# Altium footprint library adafruit.PCBLIB: 630 footprints (part 27 of 40)
Each footprint in its own frame and in the unit in brackets; x right, y up, seen from the top. Pads: shape width x height; smd on the part's side, far side on the other; paste and mask are expansions set on the pad; w line width, h text height; cw(c..) or ccw(c..) is an arc to the next point about the centre after c.
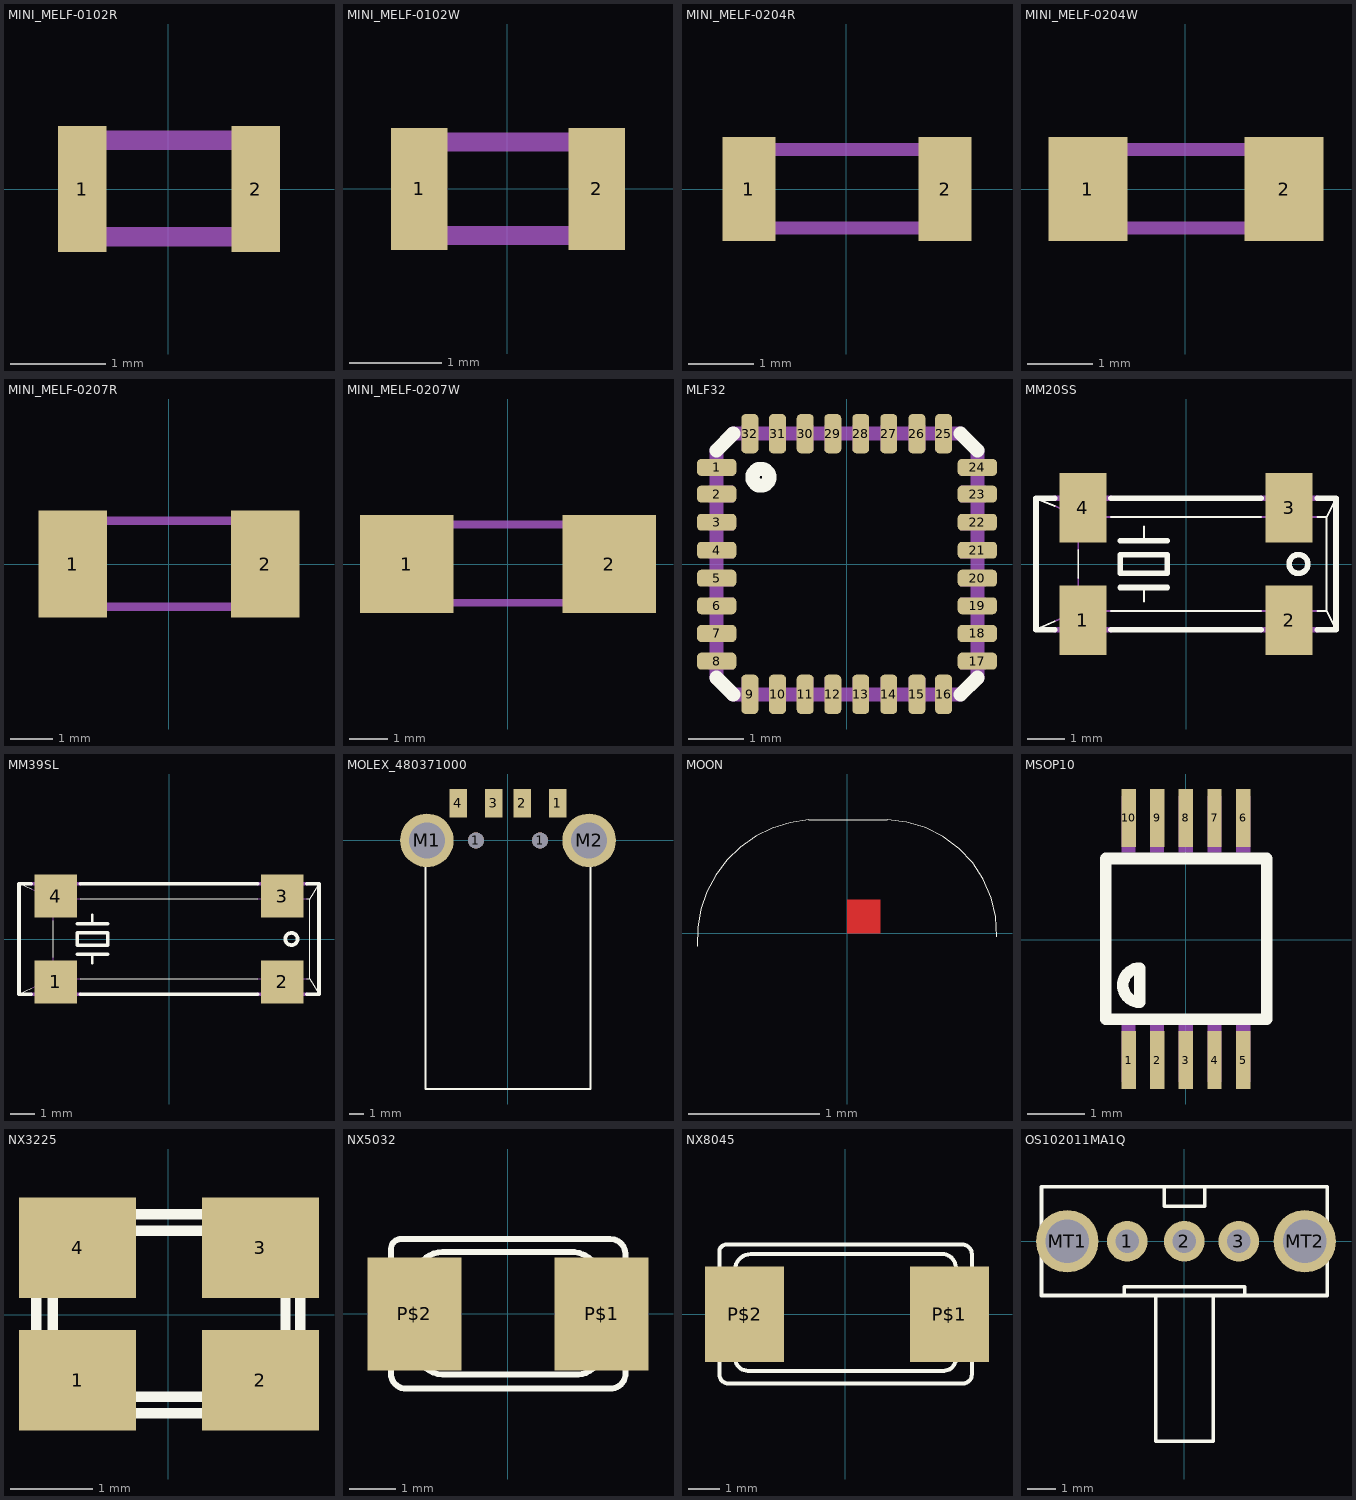
[diagram p26: the footprints below, top view; thin cyan lines are the x and y axes]

## MINI_MELF-0102R [mil]
pads (2):
  rect 20x52 smd: 1(-35.43,0) 2(36,0)
Mechanical 16:
  lines w8: -39.37,-19.68 40,-19.68 40,20 -39.37,20 -39.37,-19.68

## MINI_MELF-0102W [mil]
pads (2):
  rect 24x52 smd: 1(-37.4,0) 2(38,0)
Mechanical 16:
  lines w8: -39.37,-19.68 40,-19.68 40,20 -39.37,20 -39.37,-19.68

## MINI_MELF-0204R [mil]
pads (2):
  rect 32x63 smd: 1(-59.06,0) 2(60,0)
Mechanical 16:
  lines w8: -66.93,-23.62 67,-23.62 67,24 -66.93,24 -66.93,-23.62

## MINI_MELF-0204W [mil]
pads (2):
  rect 48x63 smd: 1(-59.06,0) 2(60,0)
Mechanical 16:
  lines w8: -66.93,-23.62 67,-23.62 67,24 -66.93,24 -66.93,-23.62

## MINI_MELF-0207R [mil]
pads (2):
  rect 63x99 smd: 1(-88.58,0) 2(89,0)
Mechanical 16:
  lines w8: -110.24,-39.37 111,-39.37 111,40 -110.24,40 -110.24,-39.37

## MINI_MELF-0207W [mil]
pads (2):
  rect 95x99 smd: 1(-102.36,0) 2(103,0)
Mechanical 16:
  lines w8: -110.24,-39.37 111,-39.37 111,40 -110.24,40 -110.24,-39.37

## MLF32 [mil]
pads (32):
  rrect50% 28x12 smd: 1(-92.52,69) 2(-92.52,50) 3(-92.52,30) 4(-92.52,10) 5(-92.52,-9.84) 6(-92.52,-29.53) 7(-92.52,-49.21) 8(-92.52,-68.9) 17(93,-68.9) 18(93,-49.21) 19(93,-29.53) 20(93,-9.84) 21(93,10) 22(93,30) 23(93,50) 24(93,69)
  rrect50% 12x28 smd: 9(-68.9,-92.52) 10(-49.21,-92.52) 11(-29.53,-92.52) 12(-9.84,-92.52) 13(10,-92.52) 14(30,-92.52) 15(50,-92.52) 16(69,-92.52) 25(69,93) 26(50,93) 27(30,93) 28(10,93) 29(-9.84,93) 30(-29.53,93) 31(-49.21,93) 32(-68.9,93)
Top Overlay:
  circle w10: c-61.02,62 r6
  lines w10: -92.52,-80.71 -80.71,-92.52 ; -92.52,81 -80.71,93 ; 81,-92.52 93,-80.71 ; 81,93 93,81
Mechanical 16:
  rectangle: -98.43,63 -80.71,75
  rectangle: -98.43,44 -80.71,56
  rectangle: -98.43,24 -80.71,36
  rectangle: -98.43,4 -80.71,16
  rectangle: -98.43,-15.75 -80.71,-3.94
  rectangle: -98.43,-35.43 -80.71,-23.62
  rectangle: -98.43,-55.12 -80.71,-43.31
  rectangle: -98.43,-74.8 -80.71,-62.99
  rectangle: -74.8,-98.43 -62.99,-80.71
  rectangle: -55.12,-98.43 -43.31,-80.71
  rectangle: -35.43,-98.43 -23.62,-80.71
  rectangle: -15.75,-98.43 -3.94,-80.71
  rectangle: 4,-98.43 16,-80.71
  rectangle: 24,-98.43 36,-80.71
  rectangle: 44,-98.43 56,-80.71
  rectangle: 63,-98.43 75,-80.71
  rectangle: 81,-74.8 99,-62.99
  rectangle: 81,-55.12 99,-43.31
  rectangle: 81,-35.43 99,-23.62
  rectangle: 81,-15.75 99,-3.94
  rectangle: 81,4 99,16
  rectangle: 81,24 99,36
  rectangle: 81,44 99,56
  rectangle: 81,63 99,75
  rectangle: 63,81 75,99
  rectangle: 44,81 56,99
  rectangle: 24,81 36,99
  rectangle: 4,81 16,99
  rectangle: -15.75,81 -3.94,99
  rectangle: -35.43,81 -23.62,99
  rectangle: -55.12,81 -43.31,99
  rectangle: -74.8,81 -62.99,99
  lines w10: -92.52,-80.71 -92.52,81 ; -80.71,-92.52 81,-92.52 ; -80.71,93 81,93 ; 93,-80.71 93,81

## MM20SS [mil]
pads (4):
  rect 50x74 smd: 1(-110,-60) 2(110,-60) 3(110,60) 4(-110,60)
Top Overlay:
  circle w6: c120,0 r10
  lines w2: -160,-70 -140,-61.1 ; -160,70 -140,62 ; -115,-15 -115,15 ; -80,-50 80,-50 ; -80,50 80,50 ; -45,-40 -45,-25 ; -45,25 -45,40 ; 140,-50 150,-50 ; 140,50 150,50 ; 160,-70 150,-50 ; 160,70 150,50 ; 150,-50 150,50
  lines w6: -140,-70 -160,-70 -160,70 -140,70 ; -80,-70 80,-70 ; -80,70 80,70 ; -70,-25 -45,-25 -20,-25 ; -70,25 -45,25 -20,25 ; 140,-70 160,-70 160,70 140,70 ; -70,-10 -20,-10 -20,10 -70,10 -70,-10
Mechanical 16:
  lines w2: -140,-61.1 -115,-50 ; -140,62 -115,50 ; -115,-15 -115,-50 ; -115,15 -115,50 ; -80,-50 -115,-50 ; -80,50 -115,50 ; 80,-50 140,-50 ; 80,50 140,50
  lines w6: -140,-70 -80,-70 ; -140,70 -80,70 ; -120,-70 -120,-75 -100,-75 -100,-70 ; -120,70 -120,75 -100,75 -100,70 ; 80,-70 140,-70 ; 80,70 140,70 ; 100,-70 100,-75 120,-75 120,-70 ; 100,70 100,75 120,75 120,70

## MM39SL [mil]
pads (4):
  rect 70x70 smd: 1(-185,-70) 2(185,-70) 3(185,70) 4(-185,70)
Top Overlay:
  circle w6: c200,0 r10
  lines w2: -245,-90 -225,-80.91 ; -245,90 -225,81 ; -190,-30 -190,30 ; -145,-65 145,-65 ; -145,65 145,65 ; 225,-65 230,-65 ; 225,65 230,65 ; 245,-90 230,-65 ; 245,90 230,65 ; 230,-65 230,65
  lines w4: -125,-40 -125,-25 ; -125,25 -125,40
  lines w6: -225,-90 -245,-90 -245,90 -225,90 ; -150,-25 -125,-25 -100,-25 ; -150,25 -125,25 -100,25 ; -145,-90 145,-90 ; -145,90 145,90 ; 225,-90 245,-90 245,90 225,90 ; -150,-10 -100,-10 -100,10 -150,10 -150,-10
Mechanical 16:
  lines w2: -225,-80.91 -190,-65 ; -225,81 -190,65 ; -190,-30 -190,-65 ; -190,30 -190,65 ; -145,-65 -190,-65 ; -145,65 -190,65 ; 145,-65 225,-65 ; 145,65 225,65
  lines w6: -225,-90 -145,-90 ; -225,90 -145,90 ; 145,-90 225,-90 ; 145,90 225,90

## MOLEX_480371000 [mil]
pads (8):
  round 44 hole 44: 1(-88.58,0) 1(89,0)
  rect 48x79 smd: 1(138,103) 2(40,103) 3(-39.37,103) 4(-137.8,103)
  round 148.5 hole 99: M1(-224.41,0) M2(225,0)
Top Overlay:
  lines w5: -228.35,0 -228.35,-688.98 229,-688.98 229,0

## MOON [mil]
Top Layer:
  region: 0,0 10,0 10,10 0,10
Top Overlay:
  lines w0: -45,-4 cw(c-9.25,-1.75) -11.5,34 12,34 cw(c10.99,-0.01) 45,-1

## MSOP10 [mil]
pads (10):
  rect 10x40 smd: 1(-39.37,-83.19) 2(-19.68,-83.19) 3(0,-83.19) 4(20,-83.19) 5(40,-83.19) 6(40,84) 7(20,84) 8(0,84) 9(-19.68,84) 10(-39.37,84)
Top Overlay:
  lines w8: -55.12,-55.12 56,-55.12 56,56 -55.12,56 -55.12,-55.12 ; -31.5,-43.31 cw(c-31.5,-31.5) -31.5,-19.68 -31.5,-43.31
Mechanical 16:
  rectangle: -44.27,-98.43 -34.43,-59.06
  rectangle: -24.58,-98.43 -14.74,-59.06
  rectangle: -4.9,-98.43 5,-59.06
  rectangle: 15,-98.43 25,-59.06
  rectangle: 35,-98.43 45,-59.06
  region: 45,99 35,99 35,60 45,60
  region: 25,99 15,99 15,60 25,60
  region: 5,99 -4.94,99 -4.94,60 5,60
  region: -14.79,99 -24.63,99 -24.63,60 -14.79,60
  region: -34.47,99 -44.31,99 -44.31,60 -34.47,60

## NX3225 [mil]
pads (4):
  rect 56x48 smd: 1(-43.31,-31.5) 2(44,-31.5) 3(44,32) 4(-43.31,32)
Top Overlay:
  lines w5: -62.99,-47.24 -62.99,48 63,48 63,-47.24 -62.99,-47.24 ; -55.12,-26.87 ccw(c-42.62,-26.87) -42.62,-39.37 43,-39.37 ccw(c43.25,-26.62) 56,-26.87 56,27 ccw(c43,27) 43,40 -42.62,40 ccw(c-42.37,27.25) -55.12,27 -55.12,-26.87

## NX5032 [mil]
pads (2):
  rect 79x95 smd: P$1(79,0) P$2(-78.74,0)
Top Overlay:
  lines w5: -98.43,-47.92 ccw(c-85.32,-49.89) -87.29,-62.99 88,-62.99 ccw(c85.96,-49.96) 99,-47.92 99,51 ccw(c86.5,50.5) 86,63 -89.62,63 ccw(c-90.02,54.6) -98.43,55 -98.43,-47.92 ; -78.74,-27.56 ccw(c-53.15,-25.59) -51.18,-51.18 56,-51.18 ccw(c57.66,-29.84) 79,-31.5 79,24 ccw(c53.49,26.49) 56,52 -55.12,52 ccw(c-54.93,28.19) -78.74,28 -78.74,-27.56

## NX8045 [mil]
pads (2):
  rect 99x119 smd: P$1(130,0) P$2(-125.98,0)
Top Overlay:
  lines w5: -157.48,-75.48 ccw(c-146.35,-75.48) -146.35,-86.61 147,-86.61 ccw(c146.93,-75.55) 158,-75.48 158,75 ccw(c146,75) 146,87 -148.68,87 ccw(c-148.58,78.1) -157.48,78 -157.48,-75.48 ; -137.8,-55.12 ccw(c-122.05,-55.12) -122.05,-70.87 123,-70.87 ccw(c122.63,-55.49) 138,-55.12 138,56 ccw(c121,58) 123,75 -118.11,75 ccw(c-118.45,55.66) -137.8,56 -137.8,-55.12

## OS102011MA1Q [mil]
pads (5):
  round 56 hole 32: 1(-78.74,0) 2(0,0) 3(75,0)
  round 86 hole 60: MT1(-161.42,0) MT2(166,0)
Top Overlay:
  lines w5: -82.68,-74.8 -39.37,-74.8 ; -82.68,-74.8 -196.85,-74.8 -196.85,75 -27.56,75 ; -82.68,-74.8 -82.68,-62.99 83,-62.99 83,-74.8 ; -39.37,-74.8 40,-74.8 ; -39.37,-74.8 -39.37,-275.59 40,-275.59 40,-74.8 ; -27.56,75 28,75 ; -27.56,75 -27.56,48 28,48 28,75 ; 28,75 197,75 197,-74.8 83,-74.8 ; 40,-74.8 83,-74.8